# Altium schematic symbol library MMBT2222A.Schlib: 1 symbol
Pins are listed as number, name and electrical type; pins without a type are passive.

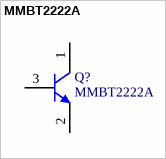
[diagram p0: symbol MMBT2222A]

## MMBT2222A
designator Q?
Transistors Bipolar - BJT SOT-23 NPN GEN PUR
pins: 1 C, 2 E, 3 B